# Altium footprint library SWITCH.PcbLib: 12 footprints
Each footprint in its own frame and in the unit in brackets; x right, y up, seen from the top. Pads: shape width x height; smd on the part's side, far side on the other; paste and mask are expansions set on the pad; w line width, h text height; cw(c..) or ccw(c..) is an arc to the next point about the centre after c.
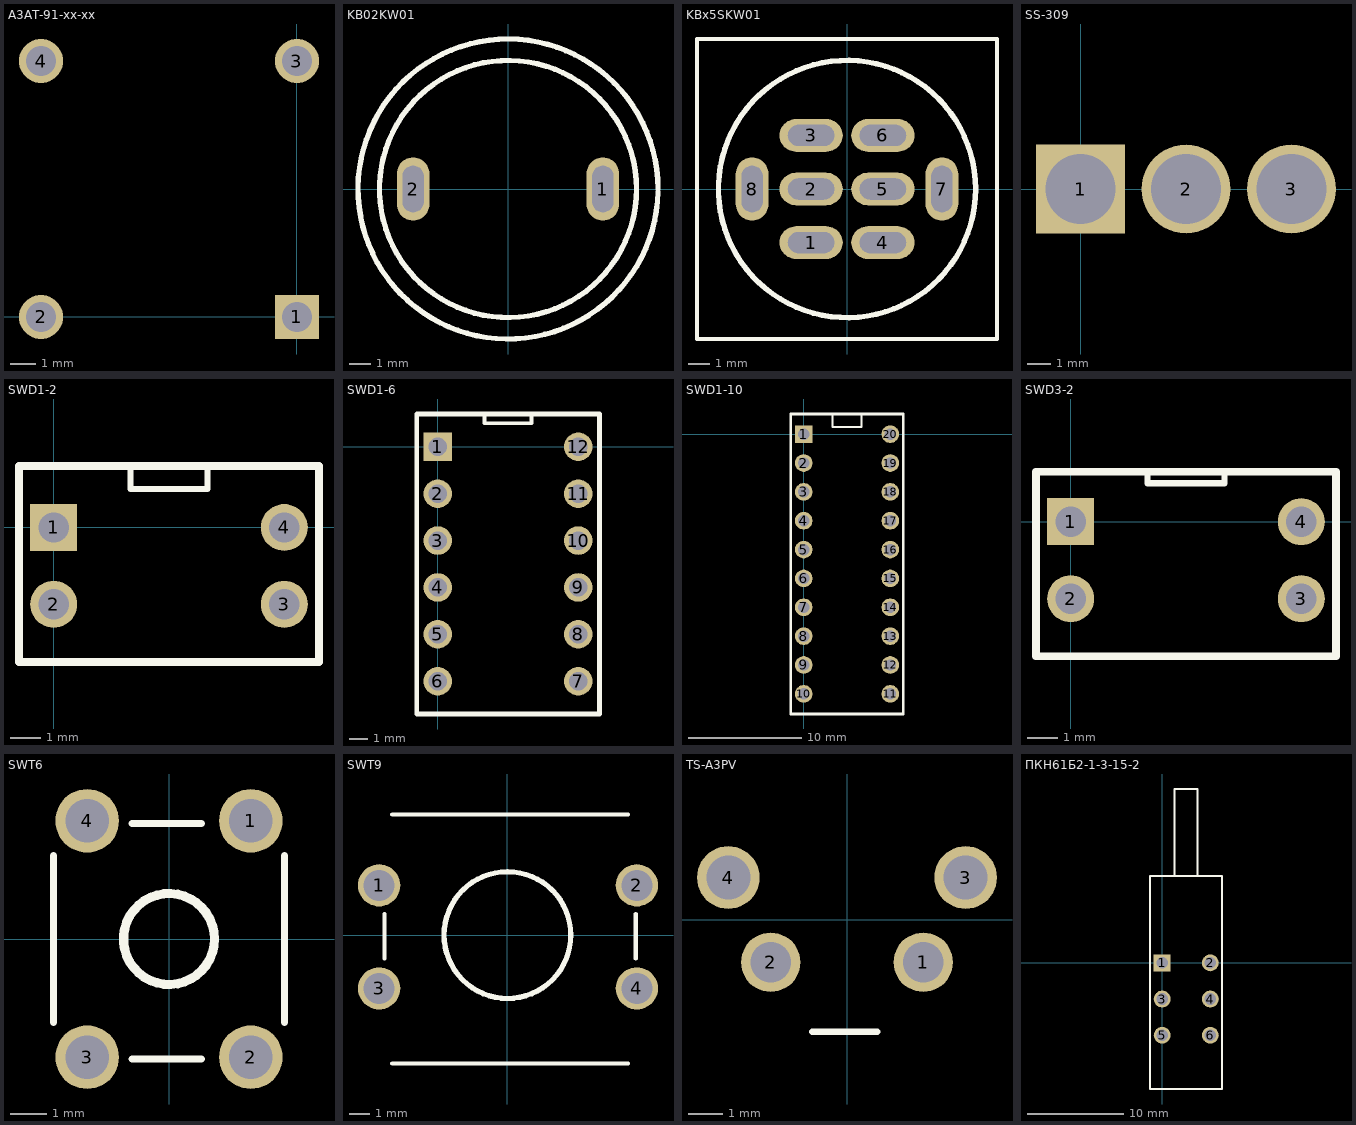
[diagram p0: the footprints below, top view; thin cyan lines are the x and y axes]

## A3AT-91-xx-xx [mm]
pads (4):
  rect 1.75x1.75 hole 1.2: 1(0,0)
  round 1.75 hole 1.2: 2(-10.16,0) 3(0,10.16) 4(-10.16,10.16)
3D body: height 18, standoff -3.5, extent -12.68,-2.52 2.52,12.68

## KB02KW01 [mm]
pads (2):
  oval 1.55x3 hole 1 slot 2.2 at 90 deg: 1(4.5,0) 2(-4.5,0)
Top Overlay:
  circle w0.254: c0,0 r6.096
  lines w0.254: 7.112,-0.127 cw(c0,0) 7.113,0
3D body: height 34.5, standoff -4, extent -7,-6.986 6.945,6.986

## KBx5SKW01 [mm]
pads (8):
  oval 3x1.55 hole 1 slot 2.2 at 0 deg: 1(-1.7,-2.54) 2(-1.7,0) 3(-1.7,2.54) 4(1.7,-2.54) 5(1.7,0) 6(1.7,2.54)
  oval 1.55x3 hole 1 slot 2.2 at 90 deg: 7(4.5,0) 8(-4.5,0)
Top Overlay:
  circle w0.254: c0,0 r6.097
  lines w0.2: -7.112,0 -7.112,7.112 7.112,7.112 7.112,-7.112 -7.112,-7.112 -7.112,0.127
3D body: height 34.5, standoff -3.7, extent -7,-7 7,7

## SS-309 [mm]
pads (3):
  rect 3.8x3.8 hole 3: 1(0,0)
  round 3.8 hole 3: 2(4.5,0) 3(9,0)
3D body: height 29.05, standoff -3.33, extent -1.85,-3.43 10.864,3.43

## SWD1-2 [mm]
pads (4):
  rect 1.55x1.55 hole 1: 1(0,0)
  round 1.55 hole 1: 2(0,-2.54) 3(7.62,-2.54) 4(7.62,0)
Top Overlay:
  lines w0.2: 2.54,2.032 2.54,1.27 5.08,1.27 5.08,2.032
  lines w0.254: -1.143,-4.445 6.731,-4.445 8.763,-4.445 8.763,2.032 8.382,2.032 6.731,2.032 -1.143,2.032 -1.143,-4.445
3D body: height 6.9, standoff -3.2, extent -1.27,-4.572 8.89,2.028

## SWD1-6 [mm]
pads (12):
  rect 1.55x1.55 hole 1: 1(0,0)
  round 1.55 hole 1: 2(0,-2.54) 3(0,-5.08) 4(0,-7.62) 5(0,-10.16) 6(0,-12.7) 7(7.62,-12.7) 8(7.62,-10.16) 9(7.62,-7.62) 10(7.62,-5.08) 11(7.62,-2.54) 12(7.62,0)
Top Overlay:
  lines w0.2: 2.54,1.778 2.54,1.27 5.08,1.27 5.08,1.778
  lines w0.254: -1.143,-14.478 -1.143,-12.7 -1.143,0 -1.143,1.778 6.985,1.778 8.128,1.778 8.763,1.778 8.763,1.27 8.763,-14.478 0.762,-14.478 -1.143,-14.478
3D body: height 7, standoff -3.7, extent -1.14,-14.478 8.76,1.762

## SWD1-10 [mm]
pads (20):
  rect 1.55x1.55 hole 1: 1(0,0)
  round 1.55 hole 1: 2(0,-2.54) 3(0,-5.08) 4(0,-7.62) 5(0,-10.16) 6(0,-12.7) 7(0,-15.24) 8(0,-17.78) 9(0,-20.32) 10(0,-22.86) 11(7.62,-22.86) 12(7.62,-20.32) 13(7.62,-17.78) 14(7.62,-15.24) 15(7.62,-12.7) 16(7.62,-10.16) 17(7.62,-7.62) 18(7.62,-5.08) 19(7.62,-2.54) 20(7.62,0)
Top Overlay:
  lines w0.2: 2.54,1.778 2.54,0.635 5.08,0.635 5.08,1.778
  lines w0.254: -1.143,-24.638 -1.143,-22.987 -1.143,0 -1.143,1.778 6.985,1.778 8.128,1.778 8.763,1.778 8.763,0 8.763,-23.114 8.763,-24.638 -1.143,-24.638
3D body: height 7, standoff -3.7, extent -1.137,-24.63 8.763,1.77

## SWD3-2 [mm]
pads (4):
  rect 1.55x1.55 hole 1: 1(0,0)
  round 1.55 hole 1: 2(0,-2.54) 3(7.62,-2.54) 4(7.62,0)
Top Overlay:
  lines w0.2: 2.54,1.651 2.54,1.27 5.08,1.27 5.08,1.651
  lines w0.254: -1.143,-4.445 -1.143,1.651 6.35,1.651 8.001,1.651 8.763,1.651 8.763,-4.445 6.731,-4.445 -1.143,-4.445
3D body: height 9, standoff -4, extent -1.23,-4.318 10.12,1.682

## SWT6 [mm]
pads (4):
  round 1.75 hole 1.2: 1(2.25,3.25) 2(2.25,-3.25) 3(-2.25,-3.25) 4(-2.25,3.25)
Top Overlay:
  circle w0.254: c0,0 r1.251
  lines w0.2: -3.175,-2.286 -3.175,2.286 ; -1.016,-3.302 0.889,-3.302 ; -1.016,3.175 0.889,3.175 ; 3.175,-2.286 3.175,2.286
3D body: height 7, standoff -3.5, extent -3.1,-3.95 3.1,3.95

## SWT9 [mm]
pads (4):
  round 2.05 hole 1.5: 1(-6.223,2.413) 2(6.277,2.413) 3(-6.223,-2.587) 4(6.277,-2.587)
Top Overlay:
  circle w0.254: c0,0 r3.074
  lines w0.2: -5.969,-1.143 -5.969,1.016 ; -5.588,-6.223 5.842,-6.223 ; -5.588,5.842 5.842,5.842 ; 6.223,-1.143 6.223,1.016
3D body: height 7.3, standoff -3.5, extent -6.373,-6.158 6.627,5.842

## TS-A3PV [mm]
pads (4):
  round 1.75 hole 1.2: 1(2.25,-1.25) 2(-2.25,-1.25)
  round 1.85 hole 1.3: 3(3.5,1.25) 4(-3.5,1.25)
Top Overlay:
  lines w0.2: -1.016,-3.302 0.889,-3.302
3D body: height 1.5, standoff -9.8, extent -4.134,-9.604 4.064,2.746

## ПКН61Б2-1-3-15-2 [mm]
pads (6):
  rect 1.75x1.75 hole 1.2: 1(0,0)
  round 1.75 hole 1.2: 2(5,0) 3(0,-3.75) 4(5,-3.75) 5(0,-7.5) 6(5,-7.5)
Top Overlay:
  lines w0.2: -1.27,-7.62 -1.27,0 -1.27,9.017 6.223,9.017 6.223,-13.081 -1.27,-13.081 -1.27,-7.493 ; 1.27,9.017 1.27,18.034 3.683,18.034 3.683,9.017